# Altium integrated library Resistor - Current Sense.IntLib: 810 symbols (part 9 of 12)
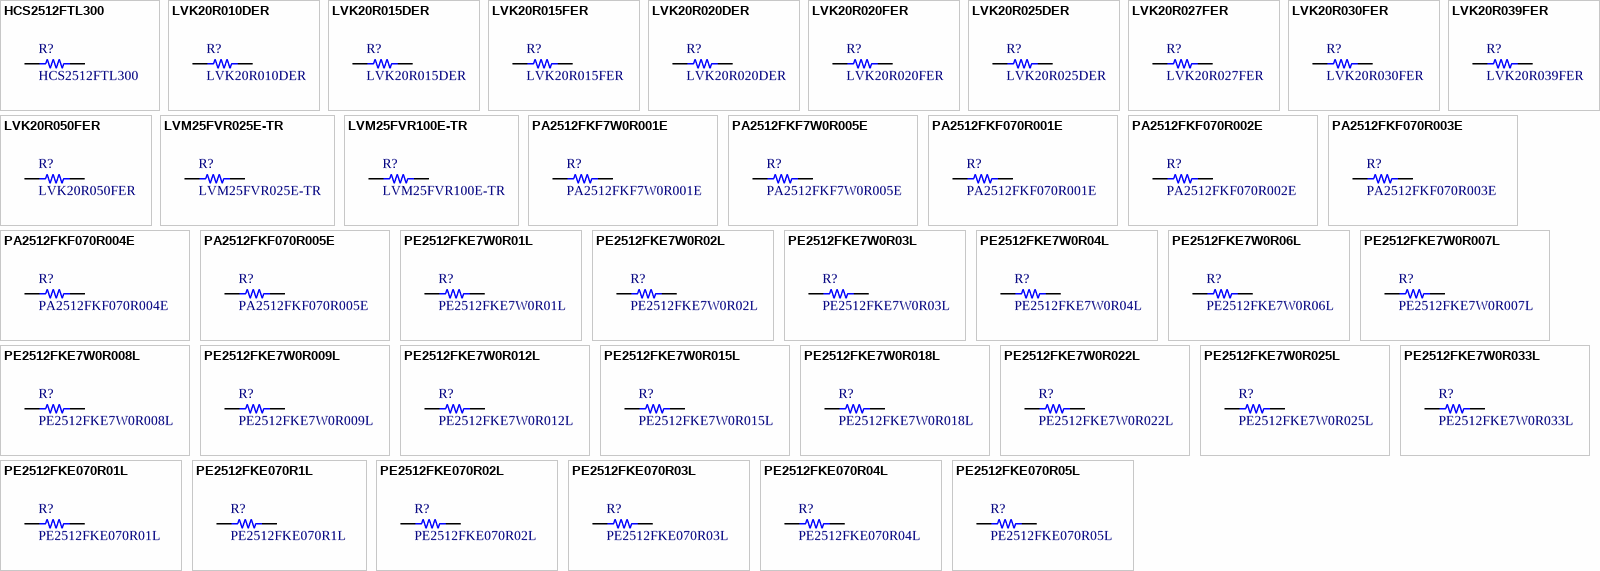
[diagram p28: symbols HCS2512FTL300 to PE2512FKE070R05L]

## LVK20R030FER
designator R?
RES SMD 0.03 OHM 1% 3/4W 2010; Manufacturer: Ohmite; Value: 0.03; TemperatureRange: -40C ~ 125C; TemperatureCoefficient: 50ppm/C; PowerRating: 0.75W, 3/4W; Part Number: LVK20R030FER; PartId: 21592; Supplier 1: Digi-Key; Supplier Part Number 1: LVK20R030FERTR-ND; ComponentLink1Description: Datasheet; ComponentLink1URL: http://www.ohmite.com/cat/res_lvk.pdf; ComponentLink2Description: Digi-Key Listing; ComponentLink2URL: https://www.digikey.com/product-detail/en/ohmite/LVK20R030FER/LVK20R030FERTR-ND/1632738; Tolerance: 1%; Price: 0.36; Device Package: 2010 (5025 Metric)
footprint STACKPOLE CSR2010
pins: 1, 2

## LVK20R039FER
designator R?
RES SMD 0.039 OHM 1% 3/4W 2010; Manufacturer: Ohmite; Value: 0.039; TemperatureRange: -40C ~ 125C; TemperatureCoefficient: 50ppm/C; PowerRating: 0.75W, 3/4W; Part Number: LVK20R039FER; PartId: 21587; Supplier 1: Digi-Key; Supplier Part Number 1: LVK20R039FERTR-ND; ComponentLink1Description: Datasheet; ComponentLink1URL: http://www.ohmite.com/cat/res_lvk.pdf; ComponentLink2Description: Digi-Key Listing; ComponentLink2URL: https://www.digikey.com/product-detail/en/ohmite/LVK20R039FER/LVK20R039FERTR-ND/1632739; Tolerance: 1%; Price: 0.36; Device Package: 2010 (5025 Metric)
footprint STACKPOLE CSR2010
pins: 1, 2

## LVK20R050FER
designator R?
RES SMD 0.05 OHM 1% 3/4W 2010; Manufacturer: Ohmite; Value: 0.05; TemperatureRange: -40C ~ 125C; TemperatureCoefficient: 50ppm/C; PowerRating: 0.75W, 3/4W; Part Number: LVK20R050FER; PartId: 21591; Supplier 1: Digi-Key; Supplier Part Number 1: LVK20R050FERTR-ND; ComponentLink1Description: Datasheet; ComponentLink1URL: http://www.ohmite.com/cat/res_lvk.pdf; ComponentLink2Description: Digi-Key Listing; ComponentLink2URL: https://www.digikey.com/product-detail/en/ohmite/LVK20R050FER/LVK20R050FERTR-ND/1632740; Tolerance: 1%; Price: 0.36; Device Package: 2010 (5025 Metric)
footprint STACKPOLE CSR2010
pins: 1, 2

## LVM25FVR025E-TR
designator R?
RES SMD 0.025 OHM 1% 1W 2512; Manufacturer: Ohmite; Value: 0.025; TemperatureRange: -55C ~ 170C; TemperatureCoefficient: 50ppm/C; Part Number: LVM25FVR025E-TR; PartId: 21242; Supplier 1: Digi-Key; Supplier Part Number 1: LVM25FVR025ETR-ND; ComponentLink1Description: Datasheet; ComponentLink1URL: http://www.ohmite.com/cat/res_lvm.pdf; ComponentLink2Description: Digi-Key Listing; ComponentLink2URL: https://www.digikey.com/product-detail/en/ohmite/LVM25FVR025E-TR/LVM25FVR025ETR-ND/6047769; Tolerance: 1%; PowerRating: 1W; Price: 0.12; Device Package: 2512 (6432 Metric)
footprint STACKPOLE CSR2512
pins: 1, 2

## LVM25FVR100E-TR
designator R?
RES SMD 0.1 OHM 1% 1W 2512; Manufacturer: Ohmite; Value: 0.1; TemperatureRange: -55C ~ 170C; TemperatureCoefficient: 50ppm/C; Part Number: LVM25FVR100E-TR; PartId: 21243; Supplier 1: Digi-Key; Supplier Part Number 1: LVM25FVR100ETR-ND; ComponentLink1Description: Datasheet; ComponentLink1URL: http://www.ohmite.com/cat/res_lvm.pdf; ComponentLink2Description: Digi-Key Listing; ComponentLink2URL: https://www.digikey.com/product-detail/en/ohmite/LVM25FVR100E-TR/LVM25FVR100ETR-ND/6047772; Tolerance: 1%; PowerRating: 1W; Price: 0.12; Device Package: 2512 (6432 Metric)
footprint STACKPOLE CSR2512
pins: 1, 2

## PA2512FKF7W0R001E
designator R?
RES SMD 0.001 OHM 1% 2W 2512; Manufacturer: Yageo; Value: 0.001; TemperatureRange: -55C ~ 170C; TemperatureCoefficient: 100ppm/C; Part Number: PA2512FKF7W0R001E; PartId: 21390; Supplier 1: Digi-Key; Supplier Part Number 1: YAG2141TR-ND; ComponentLink1Description: Datasheet; ComponentLink1URL: http://www.yageo.com/documents/recent/PYu-PA_E_51_RoHS_5.pdf; ComponentLink2Description: Digi-Key Listing; ComponentLink2URL: https://www.digikey.com/product-detail/en/yageo/PA2512FKF7W0R001E/YAG2141TR-ND/5138660; Tolerance: 1%; PowerRating: 2W; Price: 0.1768; Device Package: 2512 (6432 Metric)
footprint STACKPOLE CSR2512
pins: 1, 2

## PA2512FKF7W0R005E
designator R?
RES SMD 0.005 OHM 1% 2W 2512; Manufacturer: Yageo; Value: 0.005; TemperatureRange: -55C ~ 170C; TemperatureCoefficient: 100ppm/C; Part Number: PA2512FKF7W0R005E; PartId: 21386; Supplier 1: Digi-Key; Supplier Part Number 1: YAG2145TR-ND; ComponentLink1Description: Datasheet; ComponentLink1URL: http://www.yageo.com/documents/recent/PYu-PA_E_51_RoHS_5.pdf; ComponentLink2Description: Digi-Key Listing; ComponentLink2URL: https://www.digikey.com/product-detail/en/yageo/PA2512FKF7W0R005E/YAG2145TR-ND/5138664; Tolerance: 1%; PowerRating: 2W; Price: 0.1768; Device Package: 2512 (6432 Metric)
footprint STACKPOLE CSR2512
pins: 1, 2

## PA2512FKF070R001E
designator R?
RES SMD 0.001 OHM 1% 1W 2512; Manufacturer: Yageo; Value: 0.001; TemperatureRange: -55C ~ 170C; TemperatureCoefficient: 100ppm/C; Part Number: PA2512FKF070R001E; PartId: 21273; Supplier 1: Digi-Key; Supplier Part Number 1: YAG2136TR-ND; ComponentLink1Description: Datasheet; ComponentLink1URL: http://www.yageo.com/documents/recent/PYu-PA_E_51_RoHS_5.pdf; ComponentLink2Description: Digi-Key Listing; ComponentLink2URL: https://www.digikey.com/product-detail/en/yageo/PA2512FKF070R001E/YAG2136TR-ND/5138655; Tolerance: 1%; PowerRating: 1W; Price: 0.1366; Device Package: 2512 (6432 Metric)
footprint STACKPOLE CSR2512
pins: 1, 2

## PA2512FKF070R002E
designator R?
RES SMD 0.002 OHM 1% 1W 2512; Manufacturer: Yageo; Value: 0.002; TemperatureRange: -55C ~ 170C; TemperatureCoefficient: 100ppm/C; Part Number: PA2512FKF070R002E; PartId: 21277; Supplier 1: Digi-Key; Supplier Part Number 1: YAG2137TR-ND; ComponentLink1Description: Datasheet; ComponentLink1URL: http://www.yageo.com/documents/recent/PYu-PA_E_51_RoHS_5.pdf; ComponentLink2Description: Digi-Key Listing; ComponentLink2URL: https://www.digikey.com/product-detail/en/yageo/PA2512FKF070R002E/YAG2137TR-ND/5138656; Tolerance: 1%; PowerRating: 1W; Price: 0.1366; Device Package: 2512 (6432 Metric)
footprint STACKPOLE CSR2512
pins: 1, 2

## PA2512FKF070R003E
designator R?
RES SMD 0.003 OHM 1% 1W 2512; Manufacturer: Yageo; Value: 0.003; TemperatureRange: -55C ~ 170C; TemperatureCoefficient: 100ppm/C; Part Number: PA2512FKF070R003E; PartId: 21271; Supplier 1: Digi-Key; Supplier Part Number 1: YAG2138TR-ND; ComponentLink1Description: Datasheet; ComponentLink1URL: http://www.yageo.com/documents/recent/PYu-PA_E_51_RoHS_5.pdf; ComponentLink2Description: Digi-Key Listing; ComponentLink2URL: https://www.digikey.com/product-detail/en/yageo/PA2512FKF070R003E/YAG2138TR-ND/5138657; Tolerance: 1%; PowerRating: 1W; Price: 0.1366; Device Package: 2512 (6432 Metric)
footprint STACKPOLE CSR2512
pins: 1, 2

## PA2512FKF070R004E
designator R?
RES SMD 0.004 OHM 1% 1W 2512; Manufacturer: Yageo; Value: 0.004; TemperatureRange: -55C ~ 170C; TemperatureCoefficient: 100ppm/C; Part Number: PA2512FKF070R004E; PartId: 21278; Supplier 1: Digi-Key; Supplier Part Number 1: YAG2139TR-ND; ComponentLink1Description: Datasheet; ComponentLink1URL: http://www.yageo.com/documents/recent/PYu-PA_E_51_RoHS_5.pdf; ComponentLink2Description: Digi-Key Listing; ComponentLink2URL: https://www.digikey.com/product-detail/en/yageo/PA2512FKF070R004E/YAG2139TR-ND/5138658; Tolerance: 1%; PowerRating: 1W; Price: 0.1366; Device Package: 2512 (6432 Metric)
footprint STACKPOLE CSR2512
pins: 1, 2

## PA2512FKF070R005E
designator R?
RES SMD 0.005 OHM 1% 1W 2512; Manufacturer: Yageo; Value: 0.005; TemperatureRange: -55C ~ 170C; TemperatureCoefficient: 100ppm/C; Part Number: PA2512FKF070R005E; PartId: 21274; Supplier 1: Digi-Key; Supplier Part Number 1: YAG2140TR-ND; ComponentLink1Description: Datasheet; ComponentLink1URL: http://www.yageo.com/documents/recent/PYu-PA_E_51_RoHS_5.pdf; ComponentLink2Description: Digi-Key Listing; ComponentLink2URL: https://www.digikey.com/product-detail/en/yageo/PA2512FKF070R005E/YAG2140TR-ND/5138659; Tolerance: 1%; PowerRating: 1W; Price: 0.1366; Device Package: 2512 (6432 Metric)
footprint STACKPOLE CSR2512
pins: 1, 2

## PE2512FKE7W0R01L
designator R?
RES SMD 0.01 OHM 1% 2W 2512; Manufacturer: Yageo; Value: 0.01; TemperatureRange: -55C ~ 170C; TemperatureCoefficient: 50ppm/C; Part Number: PE2512FKE7W0R01L; PartId: 21338; Supplier 1: Digi-Key; Supplier Part Number 1: YAG2167TR-ND; ComponentLink1Description: Datasheet; ComponentLink1URL: http://www.yageo.com/documents/recent/PYu-PE_521_RoHS_L_5.pdf; ComponentLink2Description: Digi-Key Listing; ComponentLink2URL: https://www.digikey.com/product-detail/en/yageo/PE2512FKE7W0R01L/YAG2167TR-ND/5138686; Tolerance: 1%; PowerRating: 2W; Price: 0.1648; Device Package: 2512 (6432 Metric)
footprint STACKPOLE CSR2512
pins: 1, 2

## PE2512FKE7W0R02L
designator R?
RES SMD 0.02 OHM 1% 2W 2512; Manufacturer: Yageo; Value: 0.02; TemperatureRange: -55C ~ 170C; TemperatureCoefficient: 50ppm/C; Part Number: PE2512FKE7W0R02L; PartId: 21339; Supplier 1: Digi-Key; Supplier Part Number 1: YAG2170TR-ND; ComponentLink1Description: Datasheet; ComponentLink1URL: http://www.yageo.com/documents/recent/PYu-PE_521_RoHS_L_5.pdf; ComponentLink2Description: Digi-Key Listing; ComponentLink2URL: https://www.digikey.com/product-detail/en/yageo/PE2512FKE7W0R02L/YAG2170TR-ND/5138689; Tolerance: 1%; PowerRating: 2W; Price: 0.1648; Device Package: 2512 (6432 Metric)
footprint STACKPOLE CSR2512
pins: 1, 2

## PE2512FKE7W0R03L
designator R?
RES SMD 0.03 OHM 1% 2W 2512; Manufacturer: Yageo; Value: 0.03; TemperatureRange: -55C ~ 170C; TemperatureCoefficient: 50ppm/C; Part Number: PE2512FKE7W0R03L; PartId: 21346; Supplier 1: Digi-Key; Supplier Part Number 1: YAG2172TR-ND; ComponentLink1Description: Datasheet; ComponentLink1URL: http://www.yageo.com/documents/recent/PYu-PE_521_RoHS_L_5.pdf; ComponentLink2Description: Digi-Key Listing; ComponentLink2URL: https://www.digikey.com/product-detail/en/yageo/PE2512FKE7W0R03L/YAG2172TR-ND/5138691; Tolerance: 1%; PowerRating: 2W; Price: 0.1648; Device Package: 2512 (6432 Metric)
footprint STACKPOLE CSR2512
pins: 1, 2

## PE2512FKE7W0R04L
designator R?
RES SMD 0.04 OHM 1% 2W 2512; Manufacturer: Yageo; Value: 0.04; TemperatureRange: -55C ~ 170C; TemperatureCoefficient: 50ppm/C; Part Number: PE2512FKE7W0R04L; PartId: 21347; Supplier 1: Digi-Key; Supplier Part Number 1: YAG2173TR-ND; ComponentLink1Description: Datasheet; ComponentLink1URL: http://www.yageo.com/documents/recent/PYu-PE_521_RoHS_L_5.pdf; ComponentLink2Description: Digi-Key Listing; ComponentLink2URL: https://www.digikey.com/product-detail/en/yageo/PE2512FKE7W0R04L/YAG2173TR-ND/5138692; Tolerance: 1%; PowerRating: 2W; Price: 0.1648; Device Package: 2512 (6432 Metric)
footprint STACKPOLE CSR2512
pins: 1, 2

## PE2512FKE7W0R06L
designator R?
RES SMD 0.06 OHM 1% 2W 2512; Manufacturer: Yageo; Value: 0.06; TemperatureRange: -55C ~ 170C; TemperatureCoefficient: 50ppm/C; Part Number: PE2512FKE7W0R06L; PartId: 21246; Supplier 1: Digi-Key; Supplier Part Number 1: YAG2174TR-ND; ComponentLink1Description: Datasheet; ComponentLink1URL: http://www.yageo.com/documents/recent/PYu-PE_521_RoHS_L_5.pdf; ComponentLink2Description: Digi-Key Listing; ComponentLink2URL: https://www.digikey.com/product-detail/en/yageo/PE2512FKE7W0R06L/YAG2174TR-ND/5138693; Tolerance: 1%; PowerRating: 2W; Price: 0.1201; Device Package: 2512 (6432 Metric)
footprint STACKPOLE CSR2512
pins: 1, 2

## PE2512FKE7W0R007L
designator R?
RES SMD 0.007 OHM 1% 2W 2512; Manufacturer: Yageo; Value: 0.007; TemperatureRange: -55C ~ 170C; TemperatureCoefficient: 50ppm/C; Part Number: PE2512FKE7W0R007L; PartId: 21388; Supplier 1: Digi-Key; Supplier Part Number 1: YAG2161TR-ND; ComponentLink1Description: Datasheet; ComponentLink1URL: http://www.yageo.com/documents/recent/PYu-PE_521_RoHS_L_5.pdf; ComponentLink2Description: Digi-Key Listing; ComponentLink2URL: https://www.digikey.com/product-detail/en/yageo/PE2512FKE7W0R007L/YAG2161TR-ND/5138680; Tolerance: 1%; PowerRating: 2W; Price: 0.1768; Device Package: 2512 (6432 Metric)
footprint STACKPOLE CSR2512
pins: 1, 2

## PE2512FKE7W0R008L
designator R?
RES SMD 0.008 OHM 1% 2W 2512; Manufacturer: Yageo; Value: 0.008; TemperatureRange: -55C ~ 170C; TemperatureCoefficient: 50ppm/C; Part Number: PE2512FKE7W0R008L; PartId: 21389; Supplier 1: Digi-Key; Supplier Part Number 1: YAG2162TR-ND; ComponentLink1Description: Datasheet; ComponentLink1URL: http://www.yageo.com/documents/recent/PYu-PE_521_RoHS_L_5.pdf; ComponentLink2Description: Digi-Key Listing; ComponentLink2URL: https://www.digikey.com/product-detail/en/yageo/PE2512FKE7W0R008L/YAG2162TR-ND/5138681; Tolerance: 1%; PowerRating: 2W; Price: 0.1768; Device Package: 2512 (6432 Metric)
footprint STACKPOLE CSR2512
pins: 1, 2

## PE2512FKE7W0R009L
designator R?
RES SMD 0.009 OHM 1% 2W 2512; Manufacturer: Yageo; Value: 0.009; TemperatureRange: -55C ~ 170C; TemperatureCoefficient: 50ppm/C; Part Number: PE2512FKE7W0R009L; PartId: 21387; Supplier 1: Digi-Key; Supplier Part Number 1: YAG2163TR-ND; ComponentLink1Description: Datasheet; ComponentLink1URL: http://www.yageo.com/documents/recent/PYu-PE_521_RoHS_L_5.pdf; ComponentLink2Description: Digi-Key Listing; ComponentLink2URL: https://www.digikey.com/product-detail/en/yageo/PE2512FKE7W0R009L/YAG2163TR-ND/5138682; Tolerance: 1%; PowerRating: 2W; Price: 0.1768; Device Package: 2512 (6432 Metric)
footprint STACKPOLE CSR2512
pins: 1, 2

## PE2512FKE7W0R012L
designator R?
RES SMD 0.012 OHM 1% 2W 2512; Manufacturer: Yageo; Value: 0.012; TemperatureRange: -55C ~ 170C; TemperatureCoefficient: 50ppm/C; Part Number: PE2512FKE7W0R012L; PartId: 21340; Supplier 1: Digi-Key; Supplier Part Number 1: YAG2164TR-ND; ComponentLink1Description: Datasheet; ComponentLink1URL: http://www.yageo.com/documents/recent/PYu-PE_521_RoHS_L_5.pdf; ComponentLink2Description: Digi-Key Listing; ComponentLink2URL: https://www.digikey.com/product-detail/en/yageo/PE2512FKE7W0R012L/YAG2164TR-ND/5138683; Tolerance: 1%; PowerRating: 2W; Price: 0.1648; Device Package: 2512 (6432 Metric)
footprint STACKPOLE CSR2512
pins: 1, 2

## PE2512FKE7W0R015L
designator R?
RES SMD 0.015 OHM 1% 2W 2512; Manufacturer: Yageo; Value: 0.015; TemperatureRange: -55C ~ 170C; TemperatureCoefficient: 50ppm/C; Part Number: PE2512FKE7W0R015L; PartId: 21343; Supplier 1: Digi-Key; Supplier Part Number 1: YAG2165TR-ND; ComponentLink1Description: Datasheet; ComponentLink1URL: http://www.yageo.com/documents/recent/PYu-PE_521_RoHS_L_5.pdf; ComponentLink2Description: Digi-Key Listing; ComponentLink2URL: https://www.digikey.com/product-detail/en/yageo/PE2512FKE7W0R015L/YAG2165TR-ND/5138684; Tolerance: 1%; PowerRating: 2W; Price: 0.1648; Device Package: 2512 (6432 Metric)
footprint STACKPOLE CSR2512
pins: 1, 2

## PE2512FKE7W0R018L
designator R?
RES SMD 0.018 OHM 1% 2W 2512; Manufacturer: Yageo; Value: 0.018; TemperatureRange: -55C ~ 170C; TemperatureCoefficient: 50ppm/C; Part Number: PE2512FKE7W0R018L; PartId: 21341; Supplier 1: Digi-Key; Supplier Part Number 1: YAG2166TR-ND; ComponentLink1Description: Datasheet; ComponentLink1URL: http://www.yageo.com/documents/recent/PYu-PE_521_RoHS_L_5.pdf; ComponentLink2Description: Digi-Key Listing; ComponentLink2URL: https://www.digikey.com/product-detail/en/yageo/PE2512FKE7W0R018L/YAG2166TR-ND/5138685; Tolerance: 1%; PowerRating: 2W; Price: 0.1648; Device Package: 2512 (6432 Metric)
footprint STACKPOLE CSR2512
pins: 1, 2

## PE2512FKE7W0R022L
designator R?
RES SMD 0.022 OHM 1% 2W 2512; Manufacturer: Yageo; Value: 0.022; TemperatureRange: -55C ~ 170C; TemperatureCoefficient: 50ppm/C; Part Number: PE2512FKE7W0R022L; PartId: 21342; Supplier 1: Digi-Key; Supplier Part Number 1: YAG2168TR-ND; ComponentLink1Description: Datasheet; ComponentLink1URL: http://www.yageo.com/documents/recent/PYu-PE_521_RoHS_L_5.pdf; ComponentLink2Description: Digi-Key Listing; ComponentLink2URL: https://www.digikey.com/product-detail/en/yageo/PE2512FKE7W0R022L/YAG2168TR-ND/5138687; Tolerance: 1%; PowerRating: 2W; Price: 0.1648; Device Package: 2512 (6432 Metric)
footprint STACKPOLE CSR2512
pins: 1, 2

## PE2512FKE7W0R025L
designator R?
RES SMD 0.025 OHM 1% 2W 2512; Manufacturer: Yageo; Value: 0.025; TemperatureRange: -55C ~ 170C; TemperatureCoefficient: 50ppm/C; Part Number: PE2512FKE7W0R025L; PartId: 21344; Supplier 1: Digi-Key; Supplier Part Number 1: YAG2169TR-ND; ComponentLink1Description: Datasheet; ComponentLink1URL: http://www.yageo.com/documents/recent/PYu-PE_521_RoHS_L_5.pdf; ComponentLink2Description: Digi-Key Listing; ComponentLink2URL: https://www.digikey.com/product-detail/en/yageo/PE2512FKE7W0R025L/YAG2169TR-ND/5138688; Tolerance: 1%; PowerRating: 2W; Price: 0.1648; Device Package: 2512 (6432 Metric)
footprint STACKPOLE CSR2512
pins: 1, 2

## PE2512FKE7W0R033L
designator R?
RES SMD 0.033 OHM 1% 2W 2512; Manufacturer: Yageo; Value: 0.033; TemperatureRange: -55C ~ 170C; TemperatureCoefficient: 50ppm/C; Part Number: PE2512FKE7W0R033L; PartId: 21345; Supplier 1: Digi-Key; Supplier Part Number 1: YAG2171TR-ND; ComponentLink1Description: Datasheet; ComponentLink1URL: http://www.yageo.com/documents/recent/PYu-PE_521_RoHS_L_5.pdf; ComponentLink2Description: Digi-Key Listing; ComponentLink2URL: https://www.digikey.com/product-detail/en/yageo/PE2512FKE7W0R033L/YAG2171TR-ND/5138690; Tolerance: 1%; PowerRating: 2W; Price: 0.1648; Device Package: 2512 (6432 Metric)
footprint STACKPOLE CSR2512
pins: 1, 2

## PE2512FKE070R01L
designator R?
RES SMD 0.01 OHM 1% 1W 2512; Manufacturer: Yageo; Value: 0.01; TemperatureRange: -55C ~ 170C; TemperatureCoefficient: 50ppm/C; Part Number: PE2512FKE070R01L; PartId: 21248; Supplier 1: Digi-Key; Supplier Part Number 1: YAG2151TR-ND; ComponentLink1Description: Datasheet; ComponentLink1URL: http://www.yageo.com/documents/recent/PYu-PE_521_RoHS_L_5.pdf; ComponentLink2Description: Digi-Key Listing; ComponentLink2URL: https://www.digikey.com/product-detail/en/yageo/PE2512FKE070R01L/YAG2151TR-ND/5138670; Tolerance: 1%; PowerRating: 1W; Price: 0.1201; Device Package: 2512 (6432 Metric)
footprint STACKPOLE CSR2512
pins: 1, 2

## PE2512FKE070R1L
designator R?
RES SMD 0.1 OHM 1% 1W 2512; Manufacturer: Yageo; Value: 0.1; TemperatureRange: -55C ~ 170C; TemperatureCoefficient: 50ppm/C; Part Number: PE2512FKE070R1L; PartId: 21247; Supplier 1: Digi-Key; Supplier Part Number 1: YAG2159TR-ND; ComponentLink1Description: Datasheet; ComponentLink1URL: http://www.yageo.com/documents/recent/PYu-PE_521_RoHS_L_5.pdf; ComponentLink2Description: Digi-Key Listing; ComponentLink2URL: https://www.digikey.com/product-detail/en/yageo/PE2512FKE070R1L/YAG2159TR-ND/5138678; Tolerance: 1%; PowerRating: 1W; Price: 0.1201; Device Package: 2512 (6432 Metric)
footprint STACKPOLE CSR2512
pins: 1, 2

## PE2512FKE070R02L
designator R?
RES SMD 0.02 OHM 1% 1W 2512; Manufacturer: Yageo; Value: 0.02; TemperatureRange: -55C ~ 170C; TemperatureCoefficient: 50ppm/C; Part Number: PE2512FKE070R02L; PartId: 21249; Supplier 1: Digi-Key; Supplier Part Number 1: YAG2152TR-ND; ComponentLink1Description: Datasheet; ComponentLink1URL: http://www.yageo.com/documents/recent/PYu-PE_521_RoHS_L_5.pdf; ComponentLink2Description: Digi-Key Listing; ComponentLink2URL: https://www.digikey.com/product-detail/en/yageo/PE2512FKE070R02L/YAG2152TR-ND/5138671; Tolerance: 1%; PowerRating: 1W; Price: 0.1201; Device Package: 2512 (6432 Metric)
footprint STACKPOLE CSR2512
pins: 1, 2

## PE2512FKE070R03L
designator R?
RES SMD 0.03 OHM 1% 1W 2512; Manufacturer: Yageo; Value: 0.03; TemperatureRange: -55C ~ 170C; TemperatureCoefficient: 50ppm/C; Part Number: PE2512FKE070R03L; PartId: 21244; Supplier 1: Digi-Key; Supplier Part Number 1: YAG2154TR-ND; ComponentLink1Description: Datasheet; ComponentLink1URL: http://www.yageo.com/documents/recent/PYu-PE_521_RoHS_L_5.pdf; ComponentLink2Description: Digi-Key Listing; ComponentLink2URL: https://www.digikey.com/product-detail/en/yageo/PE2512FKE070R03L/YAG2154TR-ND/5138673; Tolerance: 1%; PowerRating: 1W; Price: 0.1201; Device Package: 2512 (6432 Metric)
footprint STACKPOLE CSR2512
pins: 1, 2

## PE2512FKE070R04L
designator R?
RES SMD 0.04 OHM 1% 1W 2512; Manufacturer: Yageo; Value: 0.04; TemperatureRange: -55C ~ 170C; TemperatureCoefficient: 50ppm/C; Part Number: PE2512FKE070R04L; PartId: 21251; Supplier 1: Digi-Key; Supplier Part Number 1: YAG2155TR-ND; ComponentLink1Description: Datasheet; ComponentLink1URL: http://www.yageo.com/documents/recent/PYu-PE_521_RoHS_L_5.pdf; ComponentLink2Description: Digi-Key Listing; ComponentLink2URL: https://www.digikey.com/product-detail/en/yageo/PE2512FKE070R04L/YAG2155TR-ND/5138674; Tolerance: 1%; PowerRating: 1W; Price: 0.1201; Device Package: 2512 (6432 Metric)
footprint STACKPOLE CSR2512
pins: 1, 2

## PE2512FKE070R05L
designator R?
RES SMD 0.05 OHM 1% 1W 2512; Manufacturer: Yageo; Value: 0.05; TemperatureRange: -55C ~ 170C; TemperatureCoefficient: 50ppm/C; Part Number: PE2512FKE070R05L; PartId: 21245; Supplier 1: Digi-Key; Supplier Part Number 1: YAG2156TR-ND; ComponentLink1Description: Datasheet; ComponentLink1URL: http://www.yageo.com/documents/recent/PYu-PE_521_RoHS_L_5.pdf; ComponentLink2Description: Digi-Key Listing; ComponentLink2URL: https://www.digikey.com/product-detail/en/yageo/PE2512FKE070R05L/YAG2156TR-ND/5138675; Tolerance: 1%; PowerRating: 1W; Price: 0.1201; Device Package: 2512 (6432 Metric)
footprint STACKPOLE CSR2512
pins: 1, 2

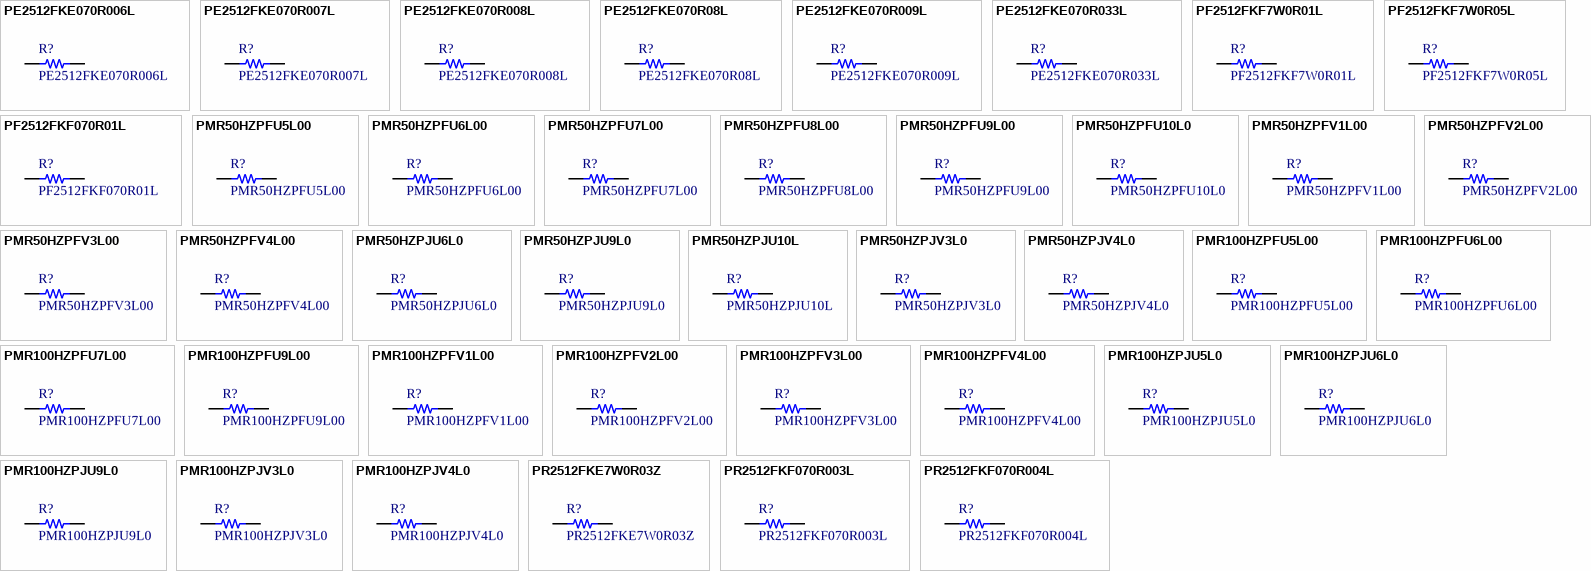
[diagram p15: symbols PE2512FKE070R006L to PR2512FKF070R004L]

## PE2512FKE070R006L
designator R?
RES SMD 0.006 OHM 1% 1W 2512; Manufacturer: Yageo; Value: 0.006; TemperatureRange: -55C ~ 170C; TemperatureCoefficient: 50ppm/C; Part Number: PE2512FKE070R006L; PartId: 21272; Supplier 1: Digi-Key; Supplier Part Number 1: YAG2146TR-ND; ComponentLink1Description: Datasheet; ComponentLink1URL: http://www.yageo.com/documents/recent/PYu-PE_521_RoHS_L_5.pdf; ComponentLink2Description: Digi-Key Listing; ComponentLink2URL: https://www.digikey.com/product-detail/en/yageo/PE2512FKE070R006L/YAG2146TR-ND/5138665; Tolerance: 1%; PowerRating: 1W; Price: 0.1366; Device Package: 2512 (6432 Metric)
footprint STACKPOLE CSR2512
pins: 1, 2

## PE2512FKE070R007L
designator R?
RES SMD 0.007 OHM 1% 1W 2512; Manufacturer: Yageo; Value: 0.007; TemperatureRange: -55C ~ 170C; TemperatureCoefficient: 50ppm/C; Part Number: PE2512FKE070R007L; PartId: 21275; Supplier 1: Digi-Key; Supplier Part Number 1: YAG2147TR-ND; ComponentLink1Description: Datasheet; ComponentLink1URL: http://www.yageo.com/documents/recent/PYu-PE_521_RoHS_L_5.pdf; ComponentLink2Description: Digi-Key Listing; ComponentLink2URL: https://www.digikey.com/product-detail/en/yageo/PE2512FKE070R007L/YAG2147TR-ND/5138666; Tolerance: 1%; PowerRating: 1W; Price: 0.1366; Device Package: 2512 (6432 Metric)
footprint STACKPOLE CSR2512
pins: 1, 2

## PE2512FKE070R008L
designator R?
RES SMD 0.008 OHM 1% 1W 2512; Manufacturer: Yageo; Value: 0.008; TemperatureRange: -55C ~ 170C; TemperatureCoefficient: 50ppm/C; Part Number: PE2512FKE070R008L; PartId: 21276; Supplier 1: Digi-Key; Supplier Part Number 1: YAG2148TR-ND; ComponentLink1Description: Datasheet; ComponentLink1URL: http://www.yageo.com/documents/recent/PYu-PE_521_RoHS_L_5.pdf; ComponentLink2Description: Digi-Key Listing; ComponentLink2URL: https://www.digikey.com/product-detail/en/yageo/PE2512FKE070R008L/YAG2148TR-ND/5138667; Tolerance: 1%; PowerRating: 1W; Price: 0.1366; Device Package: 2512 (6432 Metric)
footprint STACKPOLE CSR2512
pins: 1, 2

## PE2512FKE070R08L
designator R?
RES SMD 0.08 OHM 1% 1W 2512; Manufacturer: Yageo; Value: 0.08; TemperatureRange: -55C ~ 170C; TemperatureCoefficient: 50ppm/C; Part Number: PE2512FKE070R08L; PartId: 21252; Supplier 1: Digi-Key; Supplier Part Number 1: YAG2158TR-ND; ComponentLink1Description: Datasheet; ComponentLink1URL: http://www.yageo.com/documents/recent/PYu-PE_521_RoHS_L_5.pdf; ComponentLink2Description: Digi-Key Listing; ComponentLink2URL: https://www.digikey.com/product-detail/en/yageo/PE2512FKE070R08L/YAG2158TR-ND/5138677; Tolerance: 1%; PowerRating: 1W; Price: 0.1201; Device Package: 2512 (6432 Metric)
footprint STACKPOLE CSR2512
pins: 1, 2

## PE2512FKE070R009L
designator R?
RES SMD 0.009 OHM 1% 1W 2512; Manufacturer: Yageo; Value: 0.009; TemperatureRange: -55C ~ 170C; TemperatureCoefficient: 50ppm/C; Part Number: PE2512FKE070R009L; PartId: 21279; Supplier 1: Digi-Key; Supplier Part Number 1: YAG2149TR-ND; ComponentLink1Description: Datasheet; ComponentLink1URL: http://www.yageo.com/documents/recent/PYu-PE_521_RoHS_L_5.pdf; ComponentLink2Description: Digi-Key Listing; ComponentLink2URL: https://www.digikey.com/product-detail/en/yageo/PE2512FKE070R009L/YAG2149TR-ND/5138668; Tolerance: 1%; PowerRating: 1W; Price: 0.1366; Device Package: 2512 (6432 Metric)
footprint STACKPOLE CSR2512
pins: 1, 2

## PE2512FKE070R033L
designator R?
RES SMD 0.033 OHM 1% 1W 2512; Manufacturer: Yageo; Value: 0.033; TemperatureRange: -55C ~ 170C; TemperatureCoefficient: 50ppm/C; Part Number: PE2512FKE070R033L; PartId: 21250; Supplier 1: Digi-Key; Supplier Part Number 1: YAG2153TR-ND; ComponentLink1Description: Datasheet; ComponentLink1URL: http://www.yageo.com/documents/recent/PYu-PE_521_RoHS_L_5.pdf; ComponentLink2Description: Digi-Key Listing; ComponentLink2URL: https://www.digikey.com/product-detail/en/yageo/PE2512FKE070R033L/YAG2153TR-ND/5138672; Tolerance: 1%; PowerRating: 1W; Price: 0.1201; Device Package: 2512 (6432 Metric)
footprint STACKPOLE CSR2512
pins: 1, 2

## PF2512FKF7W0R01L
designator R?
RES SMD 0.01 OHM 1% 2W 2512; Manufacturer: Yageo; Value: 0.01; TemperatureRange: -55C ~ 155C; TemperatureCoefficient: 100ppm/C; Part Number: PF2512FKF7W0R01L; PartId: 21447; Supplier 1: Digi-Key; Supplier Part Number 1: 311-0.01NXTR-ND; ComponentLink1Description: Datasheet; ComponentLink1URL: http://www.yageo.com/documents/recent/PYu-PRPFPH_521_RoHS_L_0.pdf; ComponentLink2Description: Digi-Key Listing; ComponentLink2URL: https://www.digikey.com/product-detail/en/yageo/PF2512FKF7W0R01L/311-0.01NXTR-ND/2827683; Tolerance: 1%; PowerRating: 2W; Price: 0.2836; Device Package: 2512 (6432 Metric)
footprint STACKPOLE CSR2512
pins: 1, 2

## PF2512FKF7W0R05L
designator R?
RES SMD 0.05 OHM 1% 2W 2512; Manufacturer: Yageo; Value: 0.05; TemperatureRange: -55C ~ 155C; TemperatureCoefficient: 100ppm/C; Part Number: PF2512FKF7W0R05L; PartId: 21448; Supplier 1: Digi-Key; Supplier Part Number 1: 311-0.05AHTR-ND; ComponentLink1Description: Datasheet; ComponentLink1URL: http://www.yageo.com/documents/recent/PYu-PRPFPH_521_RoHS_L_0.pdf; ComponentLink2Description: Digi-Key Listing; ComponentLink2URL: https://www.digikey.com/product-detail/en/yageo/PF2512FKF7W0R05L/311-0.05AHTR-ND/2178327; Tolerance: 1%; PowerRating: 2W; Price: 0.2836; Device Package: 2512 (6432 Metric)
footprint STACKPOLE CSR2512
pins: 1, 2

## PF2512FKF070R01L
designator R?
RES SMD 0.01 OHM 1% 1W 2512; Manufacturer: Yageo; Value: 0.01; TemperatureRange: -55C ~ 155C; TemperatureCoefficient: 100ppm/C; Part Number: PF2512FKF070R01L; PartId: 21481; Supplier 1: Digi-Key; Supplier Part Number 1: 311-0.01AGTR-ND; ComponentLink1Description: Datasheet; ComponentLink1URL: http://www.yageo.com/documents/recent/PYu-PRPFPH_521_RoHS_L_0.pdf; ComponentLink2Description: Digi-Key Listing; ComponentLink2URL: https://www.digikey.com/product-detail/en/yageo/PF2512FKF070R01L/311-0.01AGTR-ND/2178323; Tolerance: 1%; PowerRating: 1W; Price: 0.4436; Device Package: 2512 (6432 Metric)
footprint STACKPOLE CSR2512
pins: 1, 2

## PMR50HZPFU5L00
designator R?
RES SMD 0.005 OHM 1% 1W 2010; Manufacturer: Rohm Semiconductor; Value: 0.005; TemperatureRange: -55C ~ 155C; TemperatureCoefficient: 100ppm/C; Part Number: PMR50HZPFU5L00; PartId: 21542; Supplier 1: Digi-Key; Supplier Part Number 1: RHM.005ASTR-ND; ComponentLink1Description: Datasheet; ComponentLink1URL: http://rohmfs.rohm.com/en/products/databook/datasheet/passive/resistor/chip_resistor/pmr.pdf; ComponentLink2Description: Digi-Key Listing; ComponentLink2URL: https://www.digikey.com/product-detail/en/rohm-semiconductor/PMR50HZPFU5L00/RHM.005ASTR-ND/1767320; Tolerance: 1%; PowerRating: 1W; Price: 0.1808; Device Package: 2010 (5025 Metric)
footprint STACKPOLE CSR2010
pins: 1, 2

## PMR50HZPFU6L00
designator R?
RES SMD 0.006 OHM 1% 1W 2010; Manufacturer: Rohm Semiconductor; Value: 0.006; TemperatureRange: -55C ~ 155C; TemperatureCoefficient: 100ppm/C; Part Number: PMR50HZPFU6L00; PartId: 21547; Supplier 1: Digi-Key; Supplier Part Number 1: RHM.006ASTR-ND; ComponentLink1Description: Datasheet; ComponentLink1URL: http://rohmfs.rohm.com/en/products/databook/datasheet/passive/resistor/chip_resistor/pmr.pdf; ComponentLink2Description: Digi-Key Listing; ComponentLink2URL: https://www.digikey.com/product-detail/en/rohm-semiconductor/PMR50HZPFU6L00/RHM.006ASTR-ND/1767321; Tolerance: 1%; PowerRating: 1W; Price: 0.1808; Device Package: 2010 (5025 Metric)
footprint STACKPOLE CSR2010
pins: 1, 2

## PMR50HZPFU7L00
designator R?
RES SMD 0.007 OHM 1% 1W 2010; Manufacturer: Rohm Semiconductor; Value: 0.007; TemperatureRange: -55C ~ 155C; TemperatureCoefficient: 100ppm/C; Part Number: PMR50HZPFU7L00; PartId: 21544; Supplier 1: Digi-Key; Supplier Part Number 1: RHM.007ASTR-ND; ComponentLink1Description: Datasheet; ComponentLink1URL: http://rohmfs.rohm.com/en/products/databook/datasheet/passive/resistor/chip_resistor/pmr.pdf; ComponentLink2Description: Digi-Key Listing; ComponentLink2URL: https://www.digikey.com/product-detail/en/rohm-semiconductor/PMR50HZPFU7L00/RHM.007ASTR-ND/1767322; Tolerance: 1%; PowerRating: 1W; Price: 0.1808; Device Package: 2010 (5025 Metric)
footprint STACKPOLE CSR2010
pins: 1, 2

## PMR50HZPFU8L00
designator R?
RES SMD 0.008 OHM 1% 1W 2010; Manufacturer: Rohm Semiconductor; Value: 0.008; TemperatureRange: -55C ~ 155C; TemperatureCoefficient: 100ppm/C; Part Number: PMR50HZPFU8L00; PartId: 21545; Supplier 1: Digi-Key; Supplier Part Number 1: RHM.008ASTR-ND; ComponentLink1Description: Datasheet; ComponentLink1URL: http://rohmfs.rohm.com/en/products/databook/datasheet/passive/resistor/chip_resistor/pmr.pdf; ComponentLink2Description: Digi-Key Listing; ComponentLink2URL: https://www.digikey.com/product-detail/en/rohm-semiconductor/PMR50HZPFU8L00/RHM.008ASTR-ND/1767323; Tolerance: 1%; PowerRating: 1W; Price: 0.1808; Device Package: 2010 (5025 Metric)
footprint STACKPOLE CSR2010
pins: 1, 2

## PMR50HZPFU9L00
designator R?
RES SMD 0.009 OHM 1% 1W 2010; Manufacturer: Rohm Semiconductor; Value: 0.009; TemperatureRange: -55C ~ 155C; TemperatureCoefficient: 100ppm/C; Part Number: PMR50HZPFU9L00; PartId: 21546; Supplier 1: Digi-Key; Supplier Part Number 1: RHM.009ASTR-ND; ComponentLink1Description: Datasheet; ComponentLink1URL: http://rohmfs.rohm.com/en/products/databook/datasheet/passive/resistor/chip_resistor/pmr.pdf; ComponentLink2Description: Digi-Key Listing; ComponentLink2URL: https://www.digikey.com/product-detail/en/rohm-semiconductor/PMR50HZPFU9L00/RHM.009ASTR-ND/1767324; Tolerance: 1%; PowerRating: 1W; Price: 0.1808; Device Package: 2010 (5025 Metric)
footprint STACKPOLE CSR2010
pins: 1, 2

## PMR50HZPFU10L0
designator R?
RES SMD 0.01 OHM 1% 1W 2010; Manufacturer: Rohm Semiconductor; Value: 0.01; TemperatureRange: -55C ~ 155C; TemperatureCoefficient: 100ppm/C; Part Number: PMR50HZPFU10L0; PartId: 21543; Supplier 1: Digi-Key; Supplier Part Number 1: RHM.010ASTR-ND; ComponentLink1Description: Datasheet; ComponentLink1URL: http://rohmfs.rohm.com/en/products/databook/datasheet/passive/resistor/chip_resistor/pmr.pdf; ComponentLink2Description: Digi-Key Listing; ComponentLink2URL: https://www.digikey.com/product-detail/en/rohm-semiconductor/PMR50HZPFU10L0/RHM.010ASTR-ND/1767325; Tolerance: 1%; PowerRating: 1W; Price: 0.1808; Device Package: 2010 (5025 Metric)
footprint STACKPOLE CSR2010
pins: 1, 2

## PMR50HZPFV1L00
designator R?
RES SMD 0.001 OHM 1% 1W 2010; Manufacturer: Rohm Semiconductor; Value: 0.001; TemperatureRange: -55C ~ 155C; TemperatureCoefficient: 100ppm/C; Part Number: PMR50HZPFV1L00; PartId: 21559; Supplier 1: Digi-Key; Supplier Part Number 1: RHM.001ASTR-ND; ComponentLink1Description: Datasheet; ComponentLink1URL: http://rohmfs.rohm.com/en/products/databook/datasheet/passive/resistor/chip_resistor/pmr.pdf; ComponentLink2Description: Digi-Key Listing; ComponentLink2URL: https://www.digikey.com/product-detail/en/rohm-semiconductor/PMR50HZPFV1L00/RHM.001ASTR-ND/1767316; Tolerance: 1%; PowerRating: 1W; Price: 0.1941; Device Package: 2010 (5025 Metric)
footprint STACKPOLE CSR2010
pins: 1, 2

## PMR50HZPFV2L00
designator R?
RES SMD 0.002 OHM 1% 1W 2010; Manufacturer: Rohm Semiconductor; Value: 0.002; TemperatureRange: -55C ~ 155C; TemperatureCoefficient: 100ppm/C; Part Number: PMR50HZPFV2L00; PartId: 21558; Supplier 1: Digi-Key; Supplier Part Number 1: RHM.002ASTR-ND; ComponentLink1Description: Datasheet; ComponentLink1URL: http://rohmfs.rohm.com/en/products/databook/datasheet/passive/resistor/chip_resistor/pmr.pdf; ComponentLink2Description: Digi-Key Listing; ComponentLink2URL: https://www.digikey.com/product-detail/en/rohm-semiconductor/PMR50HZPFV2L00/RHM.002ASTR-ND/1767317; Tolerance: 1%; PowerRating: 1W; Price: 0.1941; Device Package: 2010 (5025 Metric)
footprint STACKPOLE CSR2010
pins: 1, 2

## PMR50HZPFV3L00
designator R?
RES SMD 0.003 OHM 1% 1W 2010; Manufacturer: Rohm Semiconductor; Value: 0.003; TemperatureRange: -55C ~ 155C; TemperatureCoefficient: 100ppm/C; Part Number: PMR50HZPFV3L00; PartId: 21560; Supplier 1: Digi-Key; Supplier Part Number 1: RHM.003ASTR-ND; ComponentLink1Description: Datasheet; ComponentLink1URL: http://rohmfs.rohm.com/en/products/databook/datasheet/passive/resistor/chip_resistor/pmr.pdf; ComponentLink2Description: Digi-Key Listing; ComponentLink2URL: https://www.digikey.com/product-detail/en/rohm-semiconductor/PMR50HZPFV3L00/RHM.003ASTR-ND/1767318; Tolerance: 1%; PowerRating: 1W; Price: 0.1941; Device Package: 2010 (5025 Metric)
footprint STACKPOLE CSR2010
pins: 1, 2

## PMR50HZPFV4L00
designator R?
RES SMD 0.004 OHM 1% 1W 2010; Manufacturer: Rohm Semiconductor; Value: 0.004; TemperatureRange: -55C ~ 155C; TemperatureCoefficient: 100ppm/C; Part Number: PMR50HZPFV4L00; PartId: 21561; Supplier 1: Digi-Key; Supplier Part Number 1: RHM.004ASTR-ND; ComponentLink1Description: Datasheet; ComponentLink1URL: http://rohmfs.rohm.com/en/products/databook/datasheet/passive/resistor/chip_resistor/pmr.pdf; ComponentLink2Description: Digi-Key Listing; ComponentLink2URL: https://www.digikey.com/product-detail/en/rohm-semiconductor/PMR50HZPFV4L00/RHM.004ASTR-ND/1767319; Tolerance: 1%; PowerRating: 1W; Price: 0.1941; Device Package: 2010 (5025 Metric)
footprint STACKPOLE CSR2010
pins: 1, 2

## PMR50HZPJU6L0
designator R?
RES SMD 0.006 OHM 5% 1W 2010; Manufacturer: Rohm Semiconductor; Value: 0.006; TemperatureRange: -55C ~ 155C; TemperatureCoefficient: 100ppm/C; Part Number: PMR50HZPJU6L0; PartId: 21538; Supplier 1: Digi-Key; Supplier Part Number 1: RHM.006ATTR-ND; ComponentLink1Description: Datasheet; ComponentLink1URL: http://rohmfs.rohm.com/en/products/databook/datasheet/passive/resistor/chip_resistor/pmr.pdf; ComponentLink2Description: Digi-Key Listing; ComponentLink2URL: https://www.digikey.com/product-detail/en/rohm-semiconductor/PMR50HZPJU6L0/RHM.006ATTR-ND/1767311; Tolerance: 5%; PowerRating: 1W; Price: 0.1514; Device Package: 2010 (5025 Metric)
footprint STACKPOLE CSR2010
pins: 1, 2

## PMR50HZPJU9L0
designator R?
RES SMD 0.009 OHM 5% 1W 2010; Manufacturer: Rohm Semiconductor; Value: 0.009; TemperatureRange: -55C ~ 155C; TemperatureCoefficient: 100ppm/C; Part Number: PMR50HZPJU9L0; PartId: 21539; Supplier 1: Digi-Key; Supplier Part Number 1: RHM.009ATTR-ND; ComponentLink1Description: Datasheet; ComponentLink1URL: http://rohmfs.rohm.com/en/products/databook/datasheet/passive/resistor/chip_resistor/pmr.pdf; ComponentLink2Description: Digi-Key Listing; ComponentLink2URL: https://www.digikey.com/product-detail/en/rohm-semiconductor/PMR50HZPJU9L0/RHM.009ATTR-ND/1767314; Tolerance: 5%; PowerRating: 1W; Price: 0.1514; Device Package: 2010 (5025 Metric)
footprint STACKPOLE CSR2010
pins: 1, 2

## PMR50HZPJU10L
designator R?
RES SMD 0.01 OHM 5% 1W 2010; Manufacturer: Rohm Semiconductor; Value: 0.01; TemperatureRange: -55C ~ 155C; TemperatureCoefficient: 100ppm/C; Part Number: PMR50HZPJU10L; PartId: 21537; Supplier 1: Digi-Key; Supplier Part Number 1: RHM.010ATTR-ND; ComponentLink1Description: Datasheet; ComponentLink1URL: http://rohmfs.rohm.com/en/products/databook/datasheet/passive/resistor/chip_resistor/pmr.pdf; ComponentLink2Description: Digi-Key Listing; ComponentLink2URL: https://www.digikey.com/product-detail/en/rohm-semiconductor/PMR50HZPJU10L/RHM.010ATTR-ND/1767315; Tolerance: 5%; PowerRating: 1W; Price: 0.1514; Device Package: 2010 (5025 Metric)
footprint STACKPOLE CSR2010
pins: 1, 2

## PMR50HZPJV3L0
designator R?
RES SMD 0.003 OHM 5% 1W 2010; Manufacturer: Rohm Semiconductor; Value: 0.003; TemperatureRange: -55C ~ 155C; TemperatureCoefficient: 100ppm/C; Part Number: PMR50HZPJV3L0; PartId: 21540; Supplier 1: Digi-Key; Supplier Part Number 1: RHM.003ATTR-ND; ComponentLink1Description: Datasheet; ComponentLink1URL: http://rohmfs.rohm.com/en/products/databook/datasheet/passive/resistor/chip_resistor/pmr.pdf; ComponentLink2Description: Digi-Key Listing; ComponentLink2URL: https://www.digikey.com/product-detail/en/rohm-semiconductor/PMR50HZPJV3L0/RHM.003ATTR-ND/1767308; Tolerance: 5%; PowerRating: 1W; Price: 0.1634; Device Package: 2010 (5025 Metric)
footprint STACKPOLE CSR2010
pins: 1, 2

## PMR50HZPJV4L0
designator R?
RES SMD 0.004 OHM 5% 1W 2010; Manufacturer: Rohm Semiconductor; Value: 0.004; TemperatureRange: -55C ~ 155C; TemperatureCoefficient: 100ppm/C; Part Number: PMR50HZPJV4L0; PartId: 21541; Supplier 1: Digi-Key; Supplier Part Number 1: RHM.004ATTR-ND; ComponentLink1Description: Datasheet; ComponentLink1URL: http://rohmfs.rohm.com/en/products/databook/datasheet/passive/resistor/chip_resistor/pmr.pdf; ComponentLink2Description: Digi-Key Listing; ComponentLink2URL: https://www.digikey.com/product-detail/en/rohm-semiconductor/PMR50HZPJV4L0/RHM.004ATTR-ND/1767309; Tolerance: 5%; PowerRating: 1W; Price: 0.1634; Device Package: 2010 (5025 Metric)
footprint STACKPOLE CSR2010
pins: 1, 2

## PMR100HZPFU5L00
designator R?
RES SMD 0.005 OHM 1% 2W 2512; Manufacturer: Rohm Semiconductor; Value: 0.005; TemperatureRange: -55C ~ 155C; TemperatureCoefficient: 100ppm/C; Part Number: PMR100HZPFU5L00; PartId: 21331; Supplier 1: Digi-Key; Supplier Part Number 1: RHM.005AUTR-ND; ComponentLink1Description: Datasheet; ComponentLink1URL: http://rohmfs.rohm.com/en/products/databook/datasheet/passive/resistor/chip_resistor/pmr.pdf; ComponentLink2Description: Digi-Key Listing; ComponentLink2URL: https://www.digikey.com/product-detail/en/rohm-semiconductor/PMR100HZPFU5L00/RHM.005AUTR-ND/1767340; Tolerance: 1%; PowerRating: 2W; Price: 0.1634; Device Package: 2512 (6432 Metric)
footprint STACKPOLE CSR2512
pins: 1, 2

## PMR100HZPFU6L00
designator R?
RES SMD 0.006 OHM 1% 2W 2512; Manufacturer: Rohm Semiconductor; Value: 0.006; TemperatureRange: -55C ~ 155C; TemperatureCoefficient: 100ppm/C; Part Number: PMR100HZPFU6L00; PartId: 21332; Supplier 1: Digi-Key; Supplier Part Number 1: RHM.006AUTR-ND; ComponentLink1Description: Datasheet; ComponentLink1URL: http://rohmfs.rohm.com/en/products/databook/datasheet/passive/resistor/chip_resistor/pmr.pdf; ComponentLink2Description: Digi-Key Listing; ComponentLink2URL: https://www.digikey.com/product-detail/en/rohm-semiconductor/PMR100HZPFU6L00/RHM.006AUTR-ND/1767341; Tolerance: 1%; PowerRating: 2W; Price: 0.1634; Device Package: 2512 (6432 Metric)
footprint STACKPOLE CSR2512
pins: 1, 2

## PMR100HZPFU7L00
designator R?
RES SMD 0.007 OHM 1% 2W 2512; Manufacturer: Rohm Semiconductor; Value: 0.007; TemperatureRange: -55C ~ 155C; TemperatureCoefficient: 100ppm/C; Part Number: PMR100HZPFU7L00; PartId: 21335; Supplier 1: Digi-Key; Supplier Part Number 1: RHM.007AUTR-ND; ComponentLink1Description: Datasheet; ComponentLink1URL: http://rohmfs.rohm.com/en/products/databook/datasheet/passive/resistor/chip_resistor/pmr.pdf; ComponentLink2Description: Digi-Key Listing; ComponentLink2URL: https://www.digikey.com/product-detail/en/rohm-semiconductor/PMR100HZPFU7L00/RHM.007AUTR-ND/1767342; Tolerance: 1%; PowerRating: 2W; Price: 0.1634; Device Package: 2512 (6432 Metric)
footprint STACKPOLE CSR2512
pins: 1, 2

## PMR100HZPFU9L00
designator R?
RES SMD 0.009 OHM 1% 2W 2512; Manufacturer: Rohm Semiconductor; Value: 0.009; TemperatureRange: -55C ~ 155C; TemperatureCoefficient: 100ppm/C; Part Number: PMR100HZPFU9L00; PartId: 21336; Supplier 1: Digi-Key; Supplier Part Number 1: RHM.009AUTR-ND; ComponentLink1Description: Datasheet; ComponentLink1URL: http://rohmfs.rohm.com/en/products/databook/datasheet/passive/resistor/chip_resistor/pmr.pdf; ComponentLink2Description: Digi-Key Listing; ComponentLink2URL: https://www.digikey.com/product-detail/en/rohm-semiconductor/PMR100HZPFU9L00/RHM.009AUTR-ND/1767344; Tolerance: 1%; PowerRating: 2W; Price: 0.1634; Device Package: 2512 (6432 Metric)
footprint STACKPOLE CSR2512
pins: 1, 2

## PMR100HZPFV1L00
designator R?
RES SMD 0.001 OHM 1% 2W 2512; Manufacturer: Rohm Semiconductor; Value: 0.001; TemperatureRange: -55C ~ 155C; TemperatureCoefficient: 150ppm/C; Part Number: PMR100HZPFV1L00; PartId: 21330; Supplier 1: Digi-Key; Supplier Part Number 1: RHM.001AUTR-ND; ComponentLink1Description: Datasheet; ComponentLink1URL: http://rohmfs.rohm.com/en/products/databook/datasheet/passive/resistor/chip_resistor/pmr.pdf; ComponentLink2Description: Digi-Key Listing; ComponentLink2URL: https://www.digikey.com/product-detail/en/rohm-semiconductor/PMR100HZPFV1L00/RHM.001AUTR-ND/1767336; Tolerance: 1%; PowerRating: 2W; Price: 0.1634; Device Package: 2512 (6432 Metric)
footprint STACKPOLE CSR2512
pins: 1, 2

## PMR100HZPFV2L00
designator R?
RES SMD 0.002 OHM 1% 2W 2512; Manufacturer: Rohm Semiconductor; Value: 0.002; TemperatureRange: -55C ~ 155C; TemperatureCoefficient: 150ppm/C; Part Number: PMR100HZPFV2L00; PartId: 21333; Supplier 1: Digi-Key; Supplier Part Number 1: RHM.002AUTR-ND; ComponentLink1Description: Datasheet; ComponentLink1URL: http://rohmfs.rohm.com/en/products/databook/datasheet/passive/resistor/chip_resistor/pmr.pdf; ComponentLink2Description: Digi-Key Listing; ComponentLink2URL: https://www.digikey.com/product-detail/en/rohm-semiconductor/PMR100HZPFV2L00/RHM.002AUTR-ND/1767337; Tolerance: 1%; PowerRating: 2W; Price: 0.1634; Device Package: 2512 (6432 Metric)
footprint STACKPOLE CSR2512
pins: 1, 2

## PMR100HZPFV3L00
designator R?
RES SMD 0.003 OHM 1% 2W 2512; Manufacturer: Rohm Semiconductor; Value: 0.003; TemperatureRange: -55C ~ 155C; TemperatureCoefficient: 100ppm/C; Part Number: PMR100HZPFV3L00; PartId: 21334; Supplier 1: Digi-Key; Supplier Part Number 1: RHM.003AUTR-ND; ComponentLink1Description: Datasheet; ComponentLink1URL: http://rohmfs.rohm.com/en/products/databook/datasheet/passive/resistor/chip_resistor/pmr.pdf; ComponentLink2Description: Digi-Key Listing; ComponentLink2URL: https://www.digikey.com/product-detail/en/rohm-semiconductor/PMR100HZPFV3L00/RHM.003AUTR-ND/1767338; Tolerance: 1%; PowerRating: 2W; Price: 0.1634; Device Package: 2512 (6432 Metric)
footprint STACKPOLE CSR2512
pins: 1, 2

## PMR100HZPFV4L00
designator R?
RES SMD 0.004 OHM 1% 2W 2512; Manufacturer: Rohm Semiconductor; Value: 0.004; TemperatureRange: -55C ~ 155C; TemperatureCoefficient: 100ppm/C; Part Number: PMR100HZPFV4L00; PartId: 21337; Supplier 1: Digi-Key; Supplier Part Number 1: RHM.004AUTR-ND; ComponentLink1Description: Datasheet; ComponentLink1URL: http://rohmfs.rohm.com/en/products/databook/datasheet/passive/resistor/chip_resistor/pmr.pdf; ComponentLink2Description: Digi-Key Listing; ComponentLink2URL: https://www.digikey.com/product-detail/en/rohm-semiconductor/PMR100HZPFV4L00/RHM.004AUTR-ND/1767339; Tolerance: 1%; PowerRating: 2W; Price: 0.1634; Device Package: 2512 (6432 Metric)
footprint STACKPOLE CSR2512
pins: 1, 2

## PMR100HZPJU5L0
designator R?
RES SMD 0.005 OHM 5% 2W 2512; Manufacturer: Rohm Semiconductor; Value: 0.005; TemperatureRange: -55C ~ 155C; TemperatureCoefficient: 100ppm/C; Part Number: PMR100HZPJU5L0; PartId: 21307; Supplier 1: Digi-Key; Supplier Part Number 1: RHM.005AVTR-ND; ComponentLink1Description: Datasheet; ComponentLink1URL: http://rohmfs.rohm.com/en/products/databook/datasheet/passive/resistor/chip_resistor/pmr.pdf; ComponentLink2Description: Digi-Key Listing; ComponentLink2URL: https://www.digikey.com/product-detail/en/rohm-semiconductor/PMR100HZPJU5L0/RHM.005AVTR-ND/1767330; Tolerance: 5%; PowerRating: 2W; Price: 0.1514; Device Package: 2512 (6432 Metric)
footprint STACKPOLE CSR2512
pins: 1, 2

## PMR100HZPJU6L0
designator R?
RES SMD 0.006 OHM 5% 2W 2512; Manufacturer: Rohm Semiconductor; Value: 0.006; TemperatureRange: -55C ~ 155C; TemperatureCoefficient: 100ppm/C; Part Number: PMR100HZPJU6L0; PartId: 21308; Supplier 1: Digi-Key; Supplier Part Number 1: RHM.006AVTR-ND; ComponentLink1Description: Datasheet; ComponentLink1URL: http://rohmfs.rohm.com/en/products/databook/datasheet/passive/resistor/chip_resistor/pmr.pdf; ComponentLink2Description: Digi-Key Listing; ComponentLink2URL: https://www.digikey.com/product-detail/en/rohm-semiconductor/PMR100HZPJU6L0/RHM.006AVTR-ND/1767331; Tolerance: 5%; PowerRating: 2W; Price: 0.1514; Device Package: 2512 (6432 Metric)
footprint STACKPOLE CSR2512
pins: 1, 2

## PMR100HZPJU9L0
designator R?
RES SMD 0.009 OHM 5% 2W 2512; Manufacturer: Rohm Semiconductor; Value: 0.009; TemperatureRange: -55C ~ 155C; TemperatureCoefficient: 100ppm/C; Part Number: PMR100HZPJU9L0; PartId: 21309; Supplier 1: Digi-Key; Supplier Part Number 1: RHM.009AVTR-ND; ComponentLink1Description: Datasheet; ComponentLink1URL: http://rohmfs.rohm.com/en/products/databook/datasheet/passive/resistor/chip_resistor/pmr.pdf; ComponentLink2Description: Digi-Key Listing; ComponentLink2URL: https://www.digikey.com/product-detail/en/rohm-semiconductor/PMR100HZPJU9L0/RHM.009AVTR-ND/1767334; Tolerance: 5%; PowerRating: 2W; Price: 0.1514; Device Package: 2512 (6432 Metric)
footprint STACKPOLE CSR2512
pins: 1, 2

## PMR100HZPJV3L0
designator R?
RES SMD 0.003 OHM 5% 2W 2512; Manufacturer: Rohm Semiconductor; Value: 0.003; TemperatureRange: -55C ~ 155C; TemperatureCoefficient: 100ppm/C; Part Number: PMR100HZPJV3L0; PartId: 21391; Supplier 1: Digi-Key; Supplier Part Number 1: RHM.003AVTR-ND; ComponentLink1Description: Datasheet; ComponentLink1URL: http://rohmfs.rohm.com/en/products/databook/datasheet/passive/resistor/chip_resistor/pmr.pdf; ComponentLink2Description: Digi-Key Listing; ComponentLink2URL: https://www.digikey.com/product-detail/en/rohm-semiconductor/PMR100HZPJV3L0/RHM.003AVTR-ND/1767328; Tolerance: 5%; PowerRating: 2W; Price: 0.1782; Device Package: 2512 (6432 Metric)
footprint STACKPOLE CSR2512
pins: 1, 2

## PMR100HZPJV4L0
designator R?
RES SMD 0.004 OHM 5% 2W 2512; Manufacturer: Rohm Semiconductor; Value: 0.004; TemperatureRange: -55C ~ 155C; TemperatureCoefficient: 100ppm/C; Part Number: PMR100HZPJV4L0; PartId: 21392; Supplier 1: Digi-Key; Supplier Part Number 1: RHM.004AVTR-ND; ComponentLink1Description: Datasheet; ComponentLink1URL: http://rohmfs.rohm.com/en/products/databook/datasheet/passive/resistor/chip_resistor/pmr.pdf; ComponentLink2Description: Digi-Key Listing; ComponentLink2URL: https://www.digikey.com/product-detail/en/rohm-semiconductor/PMR100HZPJV4L0/RHM.004AVTR-ND/1767329; Tolerance: 5%; PowerRating: 2W; Price: 0.1782; Device Package: 2512 (6432 Metric)
footprint STACKPOLE CSR2512
pins: 1, 2

## PR2512FKE7W0R03Z
designator R?
RES SMD 0.03 OHM 1% 2W 2512; Manufacturer: Yageo; Value: 0.03; TemperatureRange: -55C ~ 170C; TemperatureCoefficient: 50ppm/C; Part Number: PR2512FKE7W0R03Z; PartId: 21440; Supplier 1: Digi-Key; Supplier Part Number 1: 311-0.03PDTR-ND; ComponentLink1Description: Datasheet; ComponentLink1URL: http://www.yageo.com/NewPortal/yageodocoutput?fileName=/pdf/R-Chip/-PYu-PR_51_RoHS_Z_0.pdf; ComponentLink2Description: Digi-Key Listing; ComponentLink2URL: https://www.digikey.com/product-detail/en/yageo/PR2512FKE7W0R03Z/311-0.03PDTR-ND/2827693; Tolerance: 1%; PowerRating: 2W; Price: 0.272; Device Package: 2512 (6432 Metric)
footprint STACKPOLE CSR2512
pins: 1, 2

## PR2512FKF070R003L
designator R?
RES SMD 0.003 OHM 1% 1W 2512; Manufacturer: Yageo; Value: 0.003; TemperatureRange: -55C ~ 170C; TemperatureCoefficient: 100ppm/C; Part Number: PR2512FKF070R003L; PartId: 21401; Supplier 1: Digi-Key; Supplier Part Number 1: 311-0.003AGTR-ND; ComponentLink1Description: Datasheet; ComponentLink1URL: http://www.yageo.com/NewPortal/yageodocoutput?fileName=/pdf/R-Chip/-PYu-PR_51_RoHS_Z_0.pdf; ComponentLink2Description: Digi-Key Listing; ComponentLink2URL: https://www.digikey.com/product-detail/en/yageo/PR2512FKF070R003L/311-0.003AGTR-ND/2178317; Tolerance: 1%; PowerRating: 1W; Price: 0.1882; Device Package: 2512 (6432 Metric)
footprint STACKPOLE CSR2512
pins: 1, 2

## PR2512FKF070R004L
designator R?
RES SMD 0.004 OHM 1% 1W 2512; Manufacturer: Yageo; Value: 0.004; TemperatureRange: -55C ~ 170C; TemperatureCoefficient: 100ppm/C; Part Number: PR2512FKF070R004L; PartId: 21403; Supplier 1: Digi-Key; Supplier Part Number 1: 311-0.004AGTR-ND; ComponentLink1Description: Datasheet; ComponentLink1URL: http://www.yageo.com/NewPortal/yageodocoutput?fileName=/pdf/R-Chip/-PYu-PR_51_RoHS_Z_0.pdf; ComponentLink2Description: Digi-Key Listing; ComponentLink2URL: https://www.digikey.com/product-detail/en/yageo/PR2512FKF070R004L/311-0.004AGTR-ND/2178316; Tolerance: 1%; PowerRating: 1W; Price: 0.1882; Device Package: 2512 (6432 Metric)
footprint STACKPOLE CSR2512
pins: 1, 2

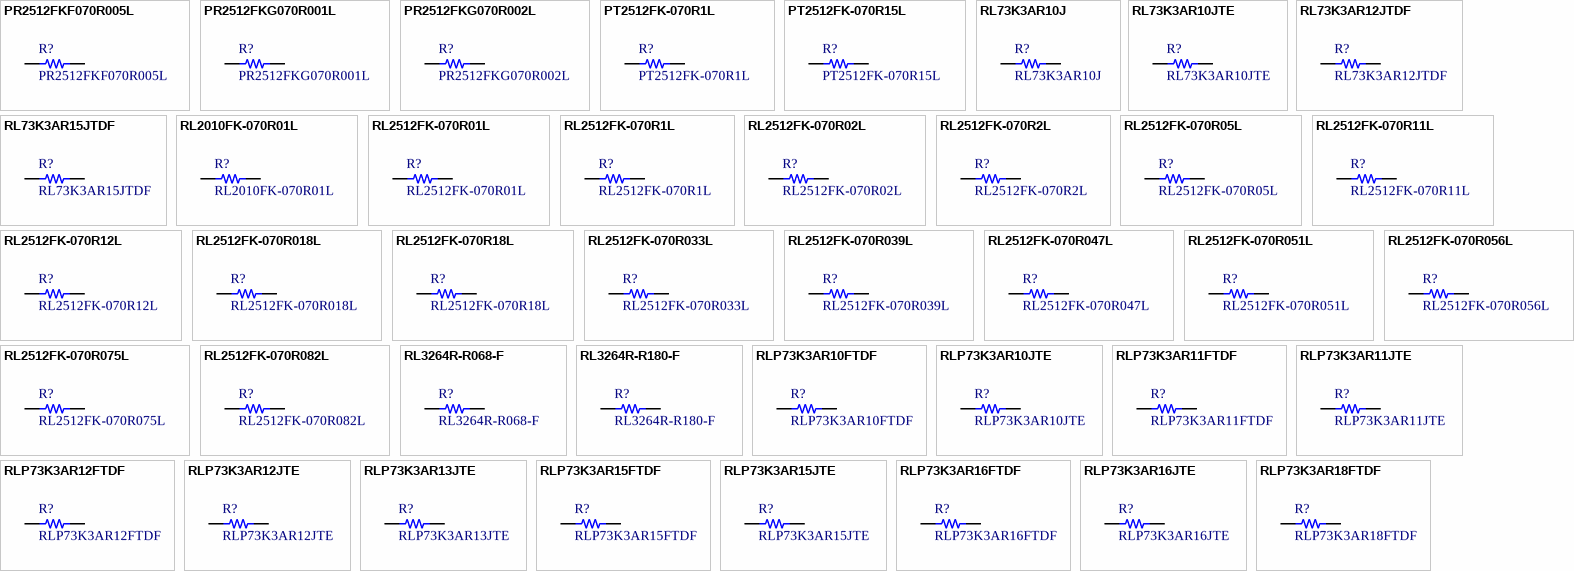
[diagram p16: symbols PR2512FKF070R005L to RLP73K3AR18FTDF]